# Altium schematic symbol library SQP.SchLib: 1 symbol
Pins are listed as number, name and electrical type; pins without a type are passive.

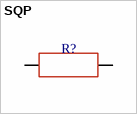
[diagram p0: symbol SQP]

## SQP
designator R?
footprint 5W
pins: 1, 2